# Altium integrated library SIM8060-6-0-14-00-A (1).IntLib: 1 symbol
Pins are listed as number, name and electrical type; pins without a type are passive.

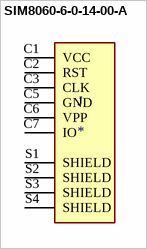
[diagram p0: symbol SIM8060-6-0-14-00-A]

## SIM8060-6-0-14-00-A
designator J
6 Position Card Connector NANO SIM Surface Mount, Right Angle Gold; MP: SIM8060-6-0-14-00-A; MF: Global Connector Technology; Package: Package Analog Devices; Price: None; Availability: Unavailable; SnapEDA_Link: https://www.snapeda.com/parts/SIM8060-6-0-14-00-A/Global%20Connector%20Technology/view-part/3214904/?ref=snap; Value: *
footprint GCT_SIM8060-6-0-14-00-A
pins: C1 VCC, C2 RST, C3 CLK, C5 GND, C6 VPP, C7 IO, S1 SHIELD, S2 SHIELD, S3 SHIELD, S4 SHIELD